# EAGLE library part TLE7230G (library Infineon)
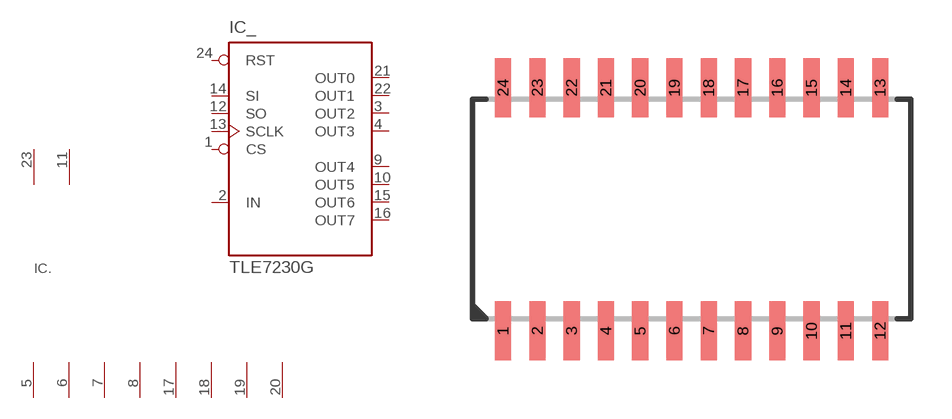
[diagram p0: symbol with the pads of SOP24; footprint SOP24]

Designator prefix IC; gates .=1VDD1VSO8GND _=TLE7232G

## TLE7230G  [SOP24]
1  _:CS  in
2  _:IN  in
3  _:OUT2  oc
4  _:OUT3  oc
5  .:GND
6  .:GND
7  .:GND
8  .:GND
9  _:OUT4  oc
10  _:OUT5  oc
11  .:VSO
12  _:SO  oc
13  _:SCLK  in
14  _:SI  in
15  _:OUT6  oc
16  _:OUT7  oc
17  .:GND
18  .:GND
19  .:GND
20  .:GND
21  _:OUT0  oc
22  _:OUT1  oc
23  .:VDD
24  _:RST  in

## Footprint SOP24 (pad centres in mm)
SMALL OUTLINE PACKAGE
smd 0.6 x 2.2: 1 -6.985,-4.5; 2 -5.715,-4.5; 3 -4.445,-4.5; 4 -3.175,-4.5; 5 -1.905,-4.5; 6 -0.635,-4.5; 7 0.635,-4.5; 8 1.905,-4.5; 9 3.175,-4.5; 10 4.445,-4.5; 11 5.715,-4.5; 12 6.985,-4.5; 13 6.985,4.5; 14 5.715,4.5; 15 4.445,4.5; 16 3.175,4.5; 17 1.905,4.5; 18 0.635,4.5; 19 -0.635,4.5; 20 -1.905,4.5; 21 -3.175,4.5; 22 -4.445,4.5; 23 -5.715,4.5; 24 -6.985,4.5